# Altium footprint library TO92.PcbLib: 1 footprints
Each footprint in its own frame and in the unit in brackets; x right, y up, seen from the top. Pads: shape width x height; smd on the part's side, far side on the other; paste and mask are expansions set on the pad; w line width, h text height; cw(c..) or ccw(c..) is an arc to the next point about the centre after c.
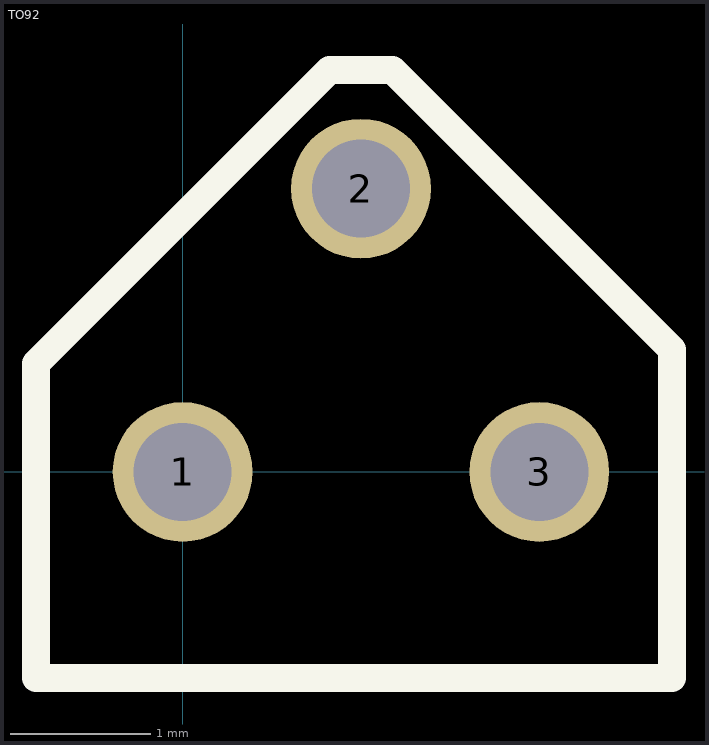
[diagram p0: the footprint, top view; thin cyan lines are the x and y axes]

## TO92 [mm]
pads (3):
  round 1 hole 0.7: 1(0,0) 2(1.275,2.025) 3(2.55,0)
Top Overlay:
  lines w0.2: -1.05,-1.475 -1.05,0.775 1.05,2.875 1.5,2.875 3.5,0.875 3.5,-1.475 -1.05,-1.475
3D body: height 8.33, standoff -4, extent -1.385,-1.475 3.935,2.685